# Altium schematic symbol library Connectors.SchLib: 114 symbols
Pins are listed as number, name and electrical type; pins without a type are passive.

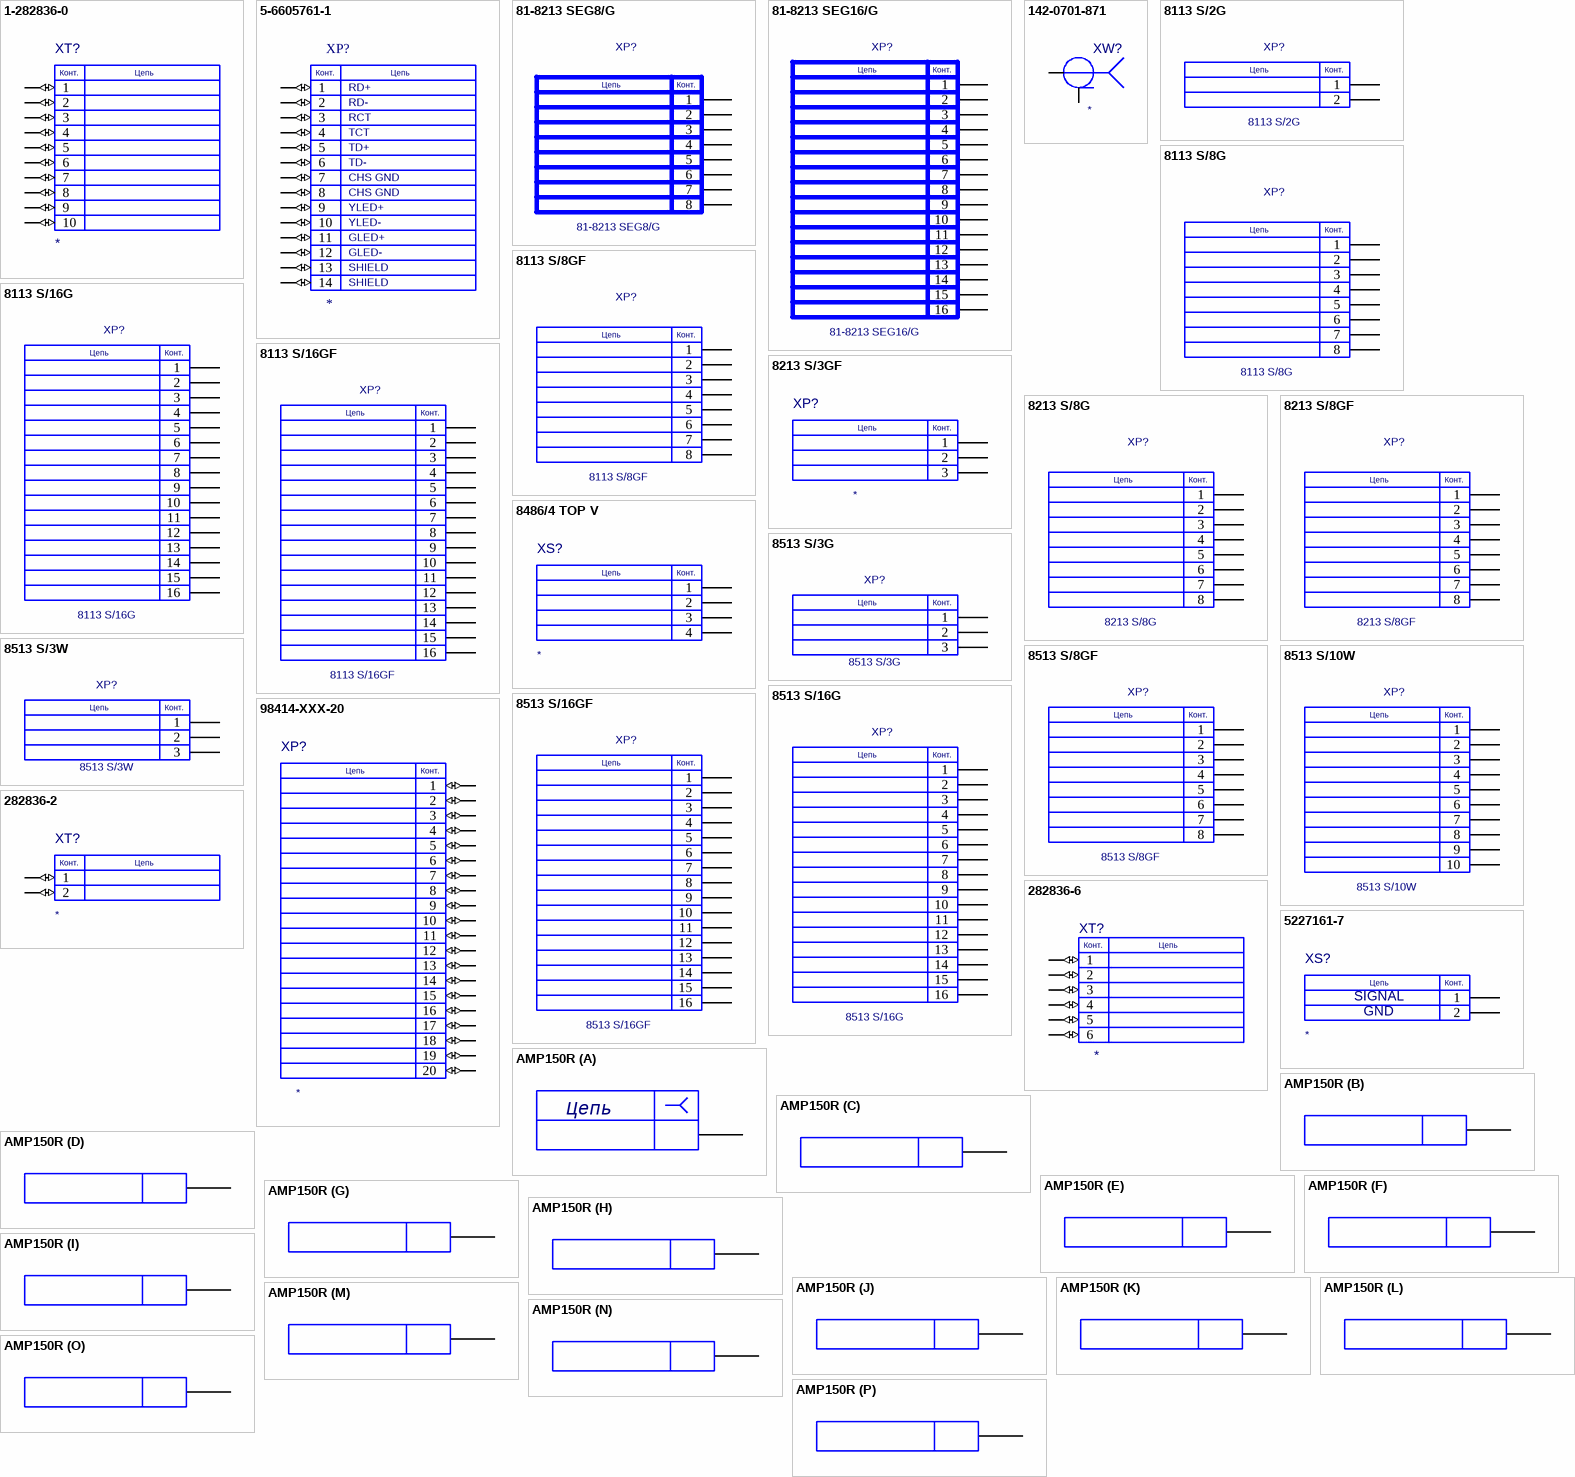
[diagram p0: symbols 1-282836-0 to AMP150R]

## 1-282836-0
designator XT?
footprint 1-282836-0
pins: 1 (io), 2 (io), 3 (io), 4 (io), 5 (io), 6 (io), 7 (io), 8 (io), 9 (io), 10 (io)
text: Конт.; Цепь

## 5-6605761-1
designator XP?
footprint RJ-45_726ET_CIRCUIT
pins: 1 (io), 2 (io), 3 (io), 4 (io), 5 (io), 6 (io), 7 (io), 8 (io), 9 (io), 10 (io), 11 (io), 12 (io), 13 (io), 14 (io)
text: Конт.; Цепь; RD+; RD-; RCT; TCT; TD+; TD-; CHS GND; YLED+; YLED-; GLED+; GLED-; SHIELD

## 81-8213 SEG8/G
designator XP?
Value: *
footprint 81-8213 SEG8/G
pins: 1, 2, 3, 4, 5, 6, 7, 8
text: Цепь; Конт.

## 81-8213 SEG16/G
designator XP?
Value: *
footprint 81-8213 SEG16/G
pins: 1, 2, 3, 4, 5, 6, 7, 8, 9, 10, 11, 12, 13, 14, 15, 16
text: Цепь; Конт.

## 142-0701-871
designator XW?
footprint 142-0701-871
pins: 1, 2

## 8113 S/2G
designator XP?
Value: *
footprint 8113S\2G
pins: 1, 2
text: Цепь; Конт.

## 8113 S/8G
designator XP?
Value: *
footprint 8113 S/8G
pins: 1, 2, 3, 4, 5, 6, 7, 8
text: Цепь; Конт.

## 8113 S/8GF
designator XP?
Value: *
footprint 8113 S/8GF
pins: 1, 2, 3, 4, 5, 6, 7, 8
text: Цепь; Конт.

## 8113 S/16G
designator XP?
Value: *
footprint 8113 S/16G
pins: 1, 2, 3, 4, 5, 6, 7, 8, 9, 10, 11, 12, 13, 14, 15, 16
text: Цепь; Конт.

## 8113 S/16GF
designator XP?
Value: *
footprint 8113 S/16GF
pins: 1, 2, 3, 4, 5, 6, 7, 8, 9, 10, 11, 12, 13, 14, 15, 16
text: Цепь; Конт.

## 8213 S/3GF
designator XP?
footprint 8213 S/3GF
pins: 1, 2, 3
text: Цепь; Конт.

## 8213 S/8G
designator XP?
Value: *
footprint 8213 S/8G
pins: 1, 2, 3, 4, 5, 6, 7, 8
text: Цепь; Конт.

## 8213 S/8GF
designator XP?
Value: *
footprint 8213 S/8GF
pins: 1, 2, 3, 4, 5, 6, 7, 8
text: Цепь; Конт.

## 8486/4 TOP V
designator XS?
footprint 8486/4 TOP V (27.703.0453.0)
pins: 1, 2, 3, 4
text: Цепь; Конт.

## 8513 S/3G
designator XP?
Value: *
footprint 8513 S/3G
pins: 1, 2, 3
text: Цепь; Конт.

## 8513 S/3W
designator XP?
Value: *
footprint 8513 S/3W
pins: 1, 2, 3
text: Цепь; Конт.

## 8513 S/8GF
designator XP?
Value: *
footprint 8513 S/8GF
pins: 1, 2, 3, 4, 5, 6, 7, 8
text: Цепь; Конт.

## 8513 S/10W
designator XP?
Value: *
footprint 8513 S/10W
pins: 1, 2, 3, 4, 5, 6, 7, 8, 9, 10
text: Цепь; Конт.

## 8513 S/16G
designator XP?
Value: *
footprint 8513 S/16G
pins: 1, 2, 3, 4, 5, 6, 7, 8, 9, 10, 11, 12, 13, 14, 15, 16
text: Цепь; Конт.

## 8513 S/16GF
designator XP?
Value: *
footprint 8513 S/16GF
pins: 1, 2, 3, 4, 5, 6, 7, 8, 9, 10, 11, 12, 13, 14, 15, 16
text: Цепь; Конт.

## 98414-XXX-20
designator XP?
footprint 98414-XXX-20
pins: 1 (io), 2 (io), 3 (io), 4 (io), 5 (io), 6 (io), 7 (io), 8 (io), 9 (io), 10 (io), 11 (io), 12 (io), 13 (io), 14 (io), 15 (io), 16 (io), 17 (io), 18 (io), 19 (io), 20 (io)
text: Цепь; Конт.

## 282836-2
designator XT?
footprint 282836-2
pins: 1 (io), 2 (io)
text: Конт.; Цепь

## 282836-6
designator XT?
footprint 282836-6
pins: 1 (io), 2 (io), 3 (io), 4 (io), 5 (io), 6 (io)
text: Конт.; Цепь

## 5227161-7
designator XS?
BNC JACK, RIGHT ANGLE, 50 OHM, PCB
footprint BNC 5227161
pins: 1, 2
text: Цепь; Конт.; SIGNAL; GND

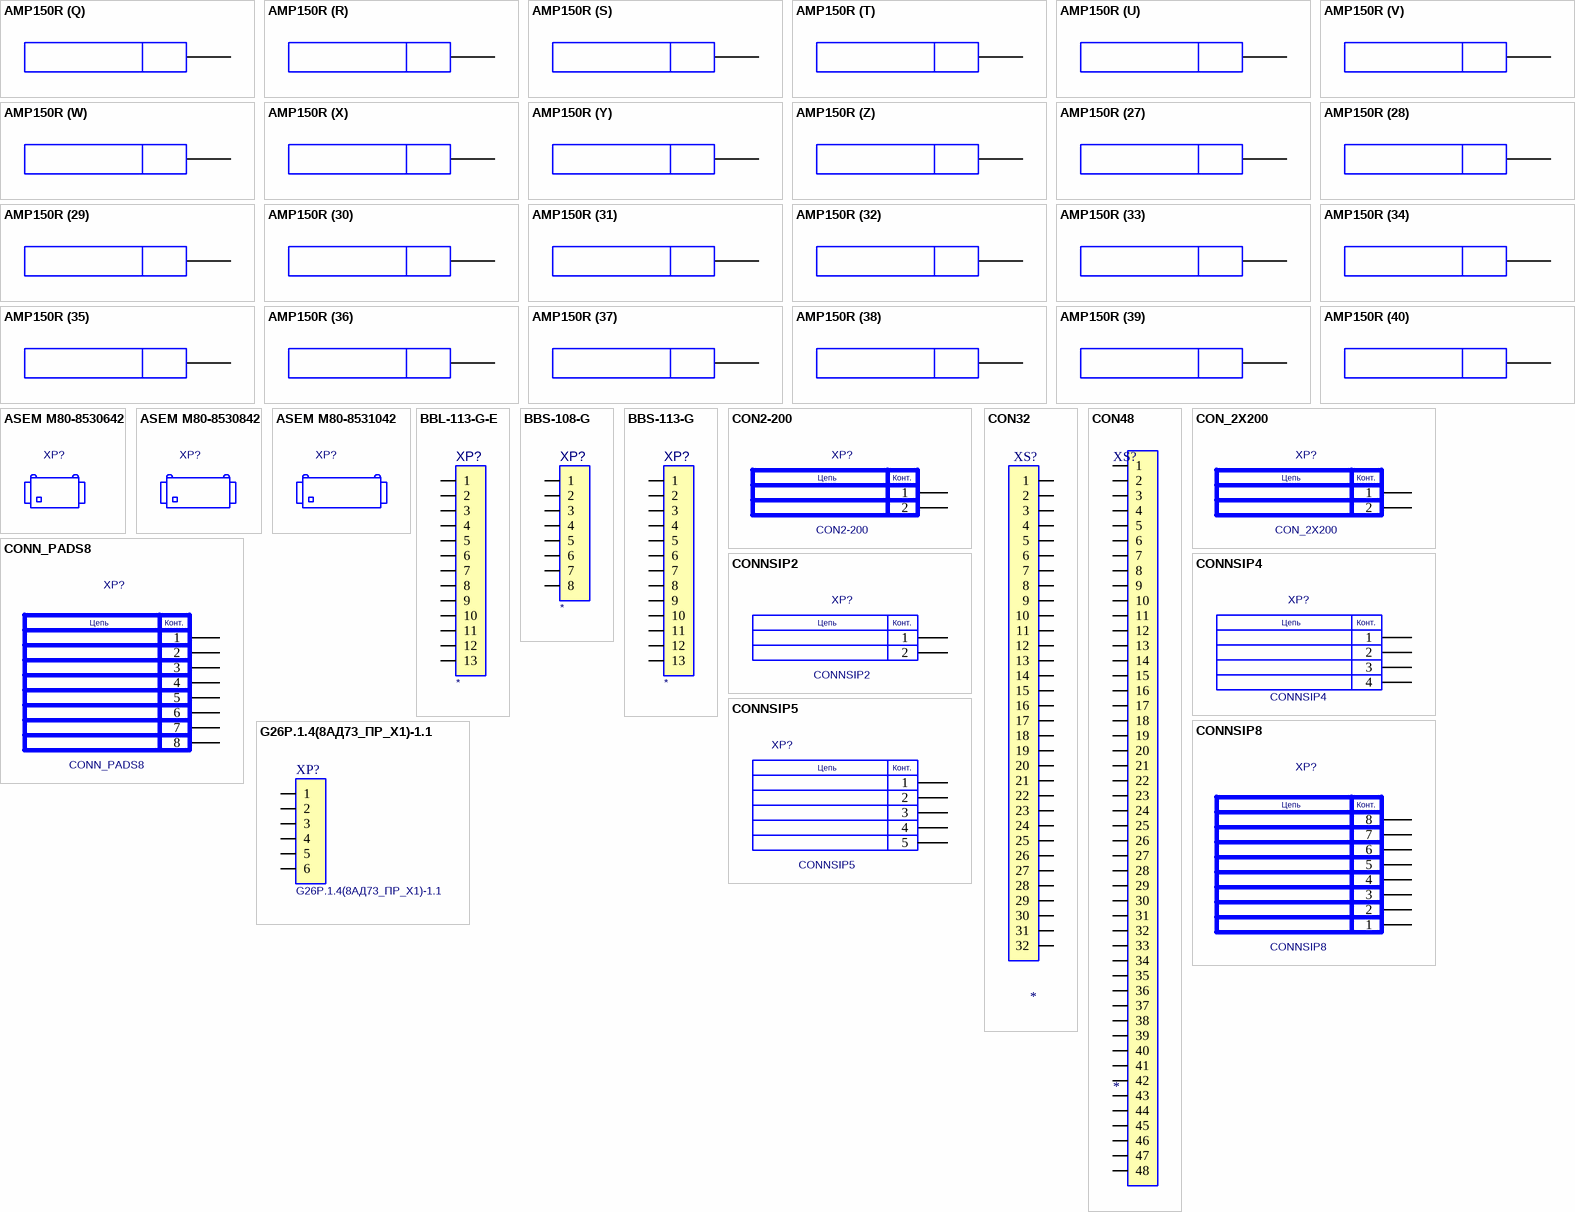
[diagram p1: symbols AMP150R to G26P.1.4(8АД73_ПР_Х1)-1.1]

## AMP150R
designator X?  (value not drawn)
Author: http://sevastianov.simbir.ru; Value: *
footprint AMP150R
pins on every part: 151 hidden, 152 hidden
part A pins: 1 a1
part B pins: 2 a2
part C pins: 3 a3
part D pins: 4 a4
part E pins: 5 a5
part F pins: 6 a6
part G pins: 7 a7
part H pins: 8 a8
part I pins: 9 a9
part J pins: 10 a10
part K pins: 11 a11
part L pins: 12 a12
part M pins: 13 a13
part N pins: 14 a14
part O pins: 15 a15
part P pins: 16 a16
part Q pins: 17 a17
part R pins: 18 a18
part S pins: 19 a19
part T pins: 20 a20
part U pins: 21 a21
part V pins: 22 a22
part W pins: 23 a23
part X pins: 24 a24
part Y pins: 25 a25
part Z pins: 26 a26
part 27 pins: 27 a27
part 28 pins: 28 a28
part 29 pins: 29 a29
part 30 pins: 30 a30
part 31 pins: 31 a31
part 32 pins: 32 a32
part 33 pins: 33 a33
part 34 pins: 34 a34
part 35 pins: 35 a35
part 36 pins: 36 a36
part 37 pins: 37 a37
part 38 pins: 38 a38
part 39 pins: 39 a39
part 40 pins: 40 a40
part 41 pins: 41 a41
part 42 pins: 42 a42
part 43 pins: 43 a43
part 44 pins: 44 a44
part 45 pins: 45 a45
part 46 pins: 46 a46
part 47 pins: 47 a47
part 48 pins: 48 a48
part 49 pins: 49 a49
part 50 pins: 50 a50
part 51 pins: 51 b1
part 52 pins: 52 b2
part 53 pins: 53 b3
part 54 pins: 54 b4
part 55 pins: 55 b5
part 56 pins: 56 b6
part 57 pins: 57 b7
part 58 pins: 58 b8
part 59 pins: 59 b9
part 60 pins: 60 b10
part 61 pins: 61 b11
part 62 pins: 62 b12
part 63 pins: 63 b13
part 64 pins: 64 b14
part 65 pins: 65 b15
part 66 pins: 66 b16
part 67 pins: 67 b17
part 68 pins: 68 b18
part 69 pins: 69 b19
part 70 pins: 70 b20
part 71 pins: 71 b21
part 72 pins: 72 b22
part 73 pins: 73 b23
part 74 pins: 74 b24
part 75 pins: 75 b25
part 76 pins: 76 b26
part 77 pins: 77 b27
part 78 pins: 78 b28
part 79 pins: 79 b29
part 80 pins: 80 b30
part 81 pins: 81 b31
part 82 pins: 82 b32
part 83 pins: 83 b33
part 84 pins: 84 b34
part 85 pins: 85 b35
part 86 pins: 86 b36
part 87 pins: 87 b37
part 88 pins: 88 b38
part 89 pins: 89 b39
part 90 pins: 90 b40
part 91 pins: 91 b41
part 92 pins: 92 b42
part 93 pins: 93 b43
part 94 pins: 94 b44
part 95 pins: 95 b45
part 96 pins: 96 b46
part 97 pins: 97 b47
part 98 pins: 98 b48
part 99 pins: 99 b49
part 100 pins: 100 b50
part 101 pins: 101 c1
part 102 pins: 102 c2
part 103 pins: 103 c3
part 104 pins: 104 c4
part 105 pins: 105 c5
part 106 pins: 106 c6
part 107 pins: 107 c7
part 108 pins: 108 c8
part 109 pins: 109 c9
part 110 pins: 110 c10
part 111 pins: 111 c11
part 112 pins: 112 c12
part 113 pins: 113 c13
part 114 pins: 114 c14
part 115 pins: 115 c15
part 116 pins: 116 c16
part 117 pins: 117 c17
part 118 pins: 118 c18
part 119 pins: 119 c19
part 120 pins: 120 c20
part 121 pins: 121 c21
part 122 pins: 122 c22
part 123 pins: 123 c23
part 124 pins: 124 c24
part 125 pins: 125 c25
part 126 pins: 126 c26
part 127 pins: 127 c27
part 128 pins: 128 c28
part 129 pins: 129 c29
part 130 pins: 130 c30
part 131 pins: 131 c31
part 132 pins: 132 c32
part 133 pins: 133 c33
part 134 pins: 134 c34
part 135 pins: 135 c35
part 136 pins: 136 c36
part 137 pins: 137 c37
part 138 pins: 138 c38
part 139 pins: 139 c39
part 140 pins: 140 c40
part 141 pins: 141 c41
part 142 pins: 142 c42
part 143 pins: 143 c43
part 144 pins: 144 c44
part 145 pins: 145 c45
part 146 pins: 146 c46
part 147 pins: 147 c47
part 148 pins: 148 c48
part 149 pins: 149 c49
part 150 pins: 150 c50
part A text: Цепь

## ASEM M80-8530642
designator XP?, comment M80-8530642 вилка на плату  (value not drawn)
M80-8530642; Value: *

## ASEM M80-8530842
designator XP?, comment M80-8530842 вилка на плату  (value not drawn)
M80-8530842; Value: *

## ASEM M80-8531042
designator XP?, comment M80-8531042 вилка на плату  (value not drawn)
M80-8531042; Value: *

## BBL-113-G-E
designator XP?
Part Field 1: *; Part Field 2: *
footprint BBL-113-G-E
pins: 1, 2, 3, 4, 5, 6, 7, 8, 9, 10, 11, 12, 13

## BBS-108-G
designator XP?
Part Field 1: *; Part Field 2: *
footprint BBS-108-G-A
pins: 1, 2, 3, 4, 5, 6, 7, 8

## BBS-113-G
designator XP?
Part Field 1: *; Part Field 2: *
footprint BBS-113-G-B
footprint BBS-113-G-A
footprint BBS-113-G-C
pins: 1, 2, 3, 4, 5, 6, 7, 8, 9, 10, 11, 12, 13

## CON2-200
designator XP?
Value: *
footprint CON2-200
pins: 1, 2
text: Цепь; Конт.

## CON32
designator XS?
Part Field 1: *; Part Field 2: *
pins: 1, 2, 3, 4, 5, 6, 7, 8, 9, 10, 11, 12, 13, 14, 15, 16, 17, 18, 19, 20, 21, 22, 23, 24, 25, 26, 27, 28, 29, 30, 31, 32

## CON48
designator XS?
Part Field 1: *; Part Field 2: *
pins: 1, 2, 3, 4, 5, 6, 7, 8, 9, 10, 11, 12, 13, 14, 15, 16, 17, 18, 19, 20, 21, 22, 23, 24, 25, 26, 27, 28, 29, 30, 31, 32, 33, 34, 35, 36, 37, 38, 39, 40, 41, 42, 43, 44, 45, 46, 47, 48

## CON_2X200
designator XP?
Value: *
footprint CON_2X200
pins: 1, 2
text: Цепь; Конт.

## CONN_PADS8
designator XP?
Value: *
footprint CON_PADS8
pins: 1, 2, 3, 4, 5, 6, 7, 8
text: Цепь; Конт.

## CONNSIP2
designator XP?
Value: *
footprint SIP2
pins: 1, 2
text: Цепь; Конт.

## CONNSIP4
designator XP?
Value: *
footprint SIP4
pins: 1, 2, 3, 4
text: Цепь; Конт.

## CONNSIP5
designator XP?
Value: *
footprint SIP5
pins: 1, 2, 3, 4, 5
text: Цепь; Конт.

## CONNSIP8
designator XP?
Value: *
footprint SIP8
pins: 1, 2, 3, 4, 5, 6, 7, 8
text: Цепь; Конт.

## G26P.1.4(8АД73_ПР_Х1)-1.1
designator XP?
Part Field 1: *; Part Field 2: *
footprint G26P.1.4(8АД73_ПР_Х1)-1.1
pins: 1, 2, 3, 4, 5, 6

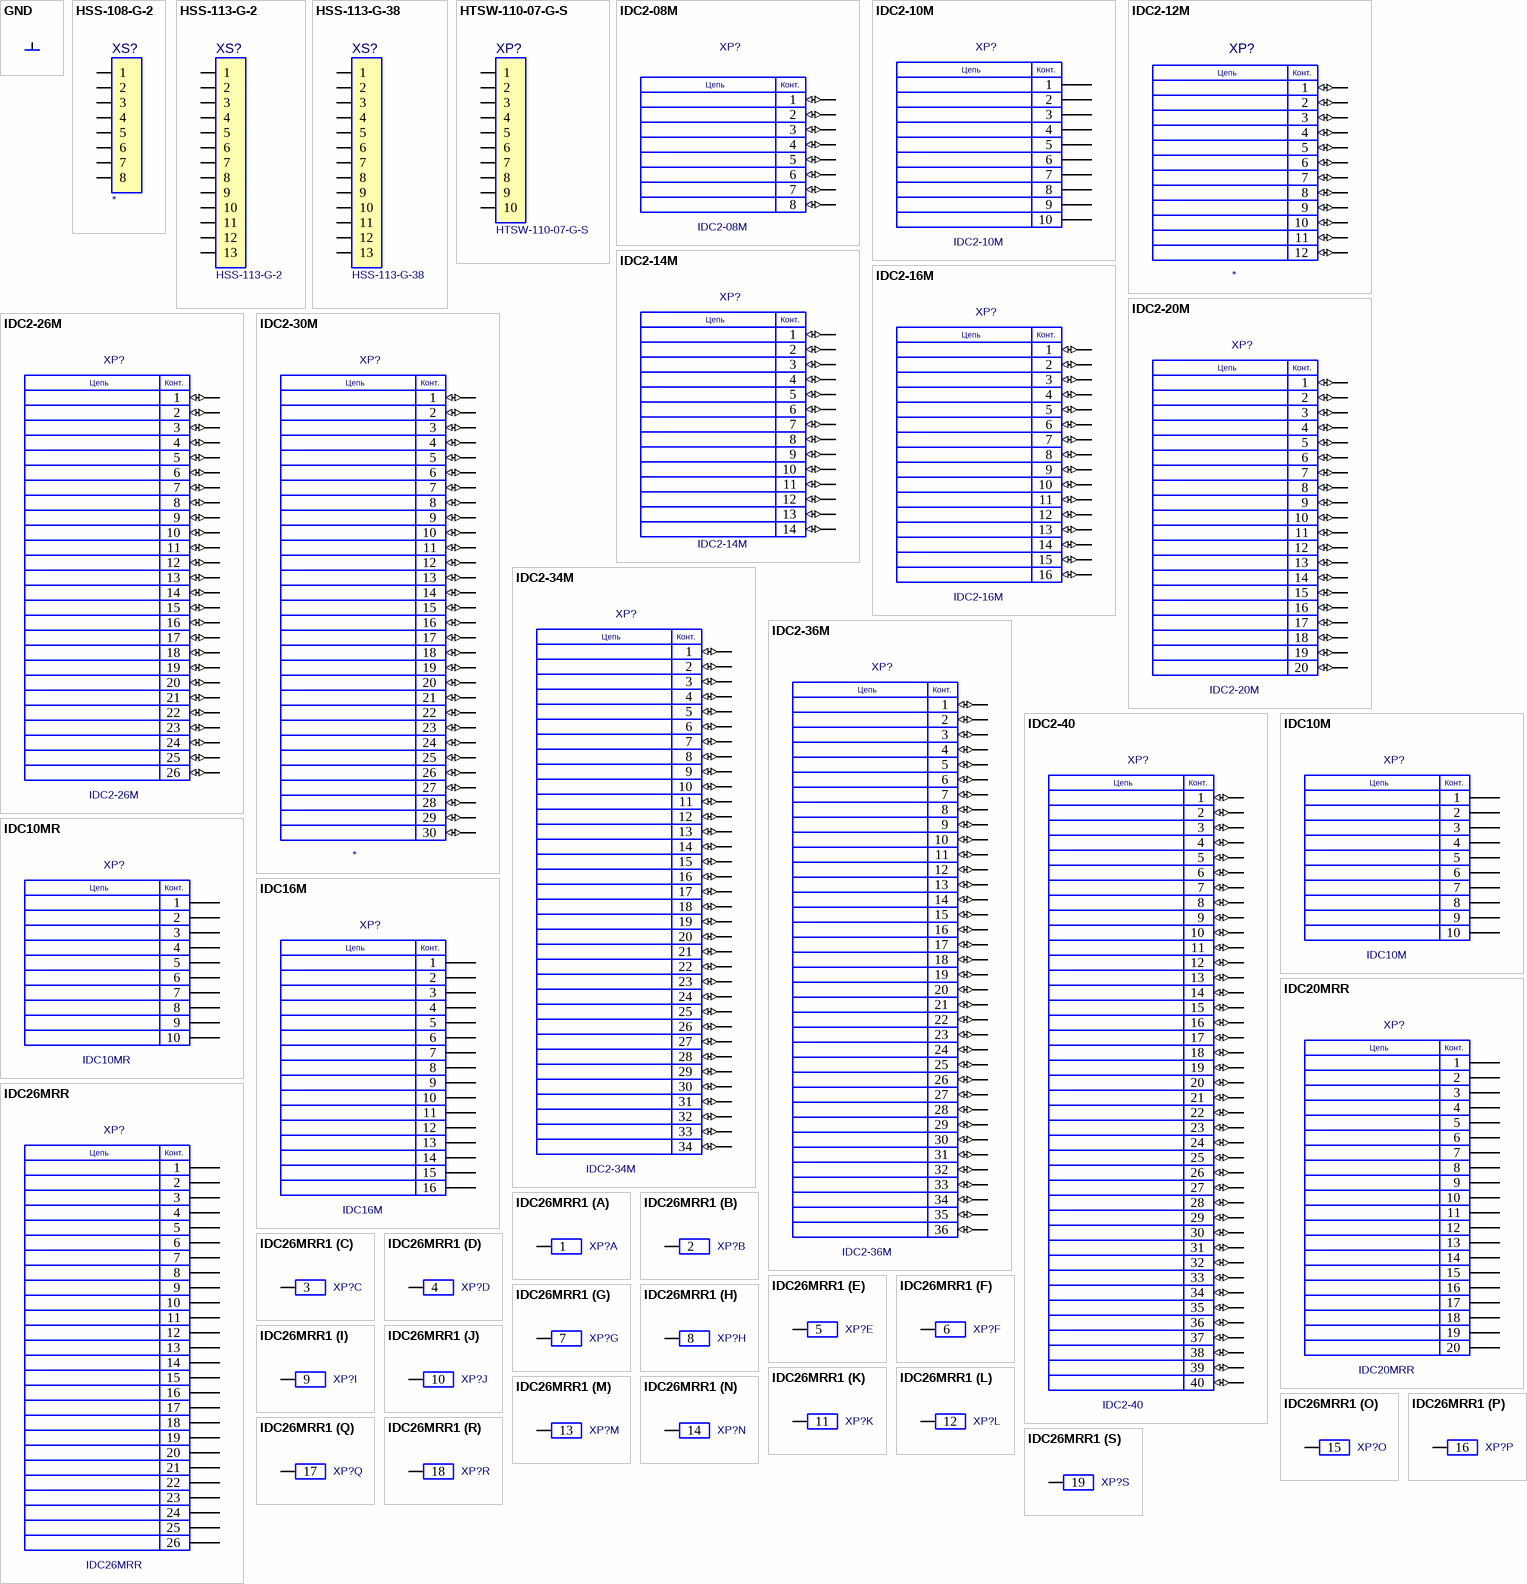
[diagram p2: symbols GND to IDC26MRR1]

## GND
designator PWR?  (value not drawn)
GND; Value: *
pins: 1 GND (power)

## HSS-108-G-2
designator XS?
HSS-108-G-2; Part Field 1: *; Part Field 2: *
footprint HSS-108-G-2 h4.4
pins: 1, 2, 3, 4, 5, 6, 7, 8

## HSS-113-G-2
designator XS?
Part Field 1: *; Part Field 2: *
footprint HSS-113-G-2 h4.4
footprint HSS-113-G-2 h2.54
footprint HSS-113-G-2 h2.54 V2
pins: 1, 2, 3, 4, 5, 6, 7, 8, 9, 10, 11, 12, 13

## HSS-113-G-38
designator XS?
Part Field 1: *; Part Field 2: *
footprint HSS-113-G-38 H2.54
pins: 1, 2, 3, 4, 5, 6, 7, 8, 9, 10, 11, 12, 13

## HTSW-110-07-G-S
designator XP?
Part Field 1: *; Part Field 2: *
footprint HTSW-110-07-G-S
pins: 1, 2, 3, 4, 5, 6, 7, 8, 9, 10

## IDC2-08M
designator XP?
Value: *
footprint IDC2-08M
pins: 1 (io), 2 (io), 3 (io), 4 (io), 5 (io), 6 (io), 7 (io), 8 (io)
text: Цепь; Конт.

## IDC2-10M
designator XP?
Value: *
footprint IDC2-10M
pins: 1, 2, 3, 4, 5, 6, 7, 8, 9, 10
text: Цепь; Конт.

## IDC2-12M
designator XP?
IDC2-14M; Value: *
footprint IDC2-12M
pins: 1 (io), 2 (io), 3 (io), 4 (io), 5 (io), 6 (io), 7 (io), 8 (io), 9 (io), 10 (io), 11 (io), 12 (io)
text: Цепь; Конт.

## IDC2-14M
designator XP?
Value: *
footprint IDC2-14M
pins: 1 (io), 2 (io), 3 (io), 4 (io), 5 (io), 6 (io), 7 (io), 8 (io), 9 (io), 10 (io), 11 (io), 12 (io), 13 (io), 14 (io)
text: Цепь; Конт.

## IDC2-16M
designator XP?
Value: *
footprint IDC2-16M
pins: 1 (io), 2 (io), 3 (io), 4 (io), 5 (io), 6 (io), 7 (io), 8 (io), 9 (io), 10 (io), 11 (io), 12 (io), 13 (io), 14 (io), 15 (io), 16 (io)
text: Цепь; Конт.

## IDC2-20M
designator XP?
Value: *
footprint IDC2-20M
pins: 1 (io), 2 (io), 3 (io), 4 (io), 5 (io), 6 (io), 7 (io), 8 (io), 9 (io), 10 (io), 11 (io), 12 (io), 13 (io), 14 (io), 15 (io), 16 (io), 17 (io), 18 (io), 19 (io), 20 (io)
text: Цепь; Конт.

## IDC2-26M
designator XP?
Value: *
footprint IDC2-26M
pins: 1 (io), 2 (io), 3 (io), 4 (io), 5 (io), 6 (io), 7 (io), 8 (io), 9 (io), 10 (io), 11 (io), 12 (io), 13 (io), 14 (io), 15 (io), 16 (io), 17 (io), 18 (io), 19 (io), 20 (io), 21 (io), 22 (io), 23 (io), 24 (io), 25 (io), 26 (io)
text: Цепь; Конт.

## IDC2-30M
designator XP?
IDC2-34M; Value: *
footprint IDC2-30M
pins: 1 (io), 2 (io), 3 (io), 4 (io), 5 (io), 6 (io), 7 (io), 8 (io), 9 (io), 10 (io), 11 (io), 12 (io), 13 (io), 14 (io), 15 (io), 16 (io), 17 (io), 18 (io), 19 (io), 20 (io), 21 (io), 22 (io), 23 (io), 24 (io), 25 (io), 26 (io), 27 (io), 28 (io), 29 (io), 30 (io)
text: Цепь; Конт.

## IDC2-34M
designator XP?
Value: *
footprint IDC2-34M
pins: 1 (io), 2 (io), 3 (io), 4 (io), 5 (io), 6 (io), 7 (io), 8 (io), 9 (io), 10 (io), 11 (io), 12 (io), 13 (io), 14 (io), 15 (io), 16 (io), 17 (io), 18 (io), 19 (io), 20 (io), 21 (io), 22 (io), 23 (io), 24 (io), 25 (io), 26 (io), 27 (io), 28 (io), 29 (io), 30 (io), 31 (io), 32 (io), 33 (io), 34 (io)
text: Цепь; Конт.

## IDC2-36M
designator XP?
Value: *
footprint IDC2-36M
pins: 1 (io), 2 (io), 3 (io), 4 (io), 5 (io), 6 (io), 7 (io), 8 (io), 9 (io), 10 (io), 11 (io), 12 (io), 13 (io), 14 (io), 15 (io), 16 (io), 17 (io), 18 (io), 19 (io), 20 (io), 21 (io), 22 (io), 23 (io), 24 (io), 25 (io), 26 (io), 27 (io), 28 (io), 29 (io), 30 (io), 31 (io), 32 (io), 33 (io), 34 (io), 35 (io), 36 (io)
text: Цепь; Конт.

## IDC2-40
designator XP?
Value: *
footprint IDC2-40
pins: 1 (io), 2 (io), 3 (io), 4 (io), 5 (io), 6 (io), 7 (io), 8 (io), 9 (io), 10 (io), 11 (io), 12 (io), 13 (io), 14 (io), 15 (io), 16 (io), 17 (io), 18 (io), 19 (io), 20 (io), 21 (io), 22 (io), 23 (io), 24 (io), 25 (io), 26 (io), 27 (io), 28 (io), 29 (io), 30 (io), 31 (io), 32 (io), 33 (io), 34 (io), 35 (io), 36 (io), 37 (io), 38 (io), 39 (io), 40 (io)
text: Цепь; Конт.

## IDC10M
designator XP?
Value: *
footprint IDC10M
pins: 1, 2, 3, 4, 5, 6, 7, 8, 9, 10
text: Цепь; Конт.

## IDC10MR
designator XP?
Value: *
footprint IDC10MR
pins: 1, 2, 3, 4, 5, 6, 7, 8, 9, 10
text: Цепь; Конт.

## IDC16M
designator XP?
Value: *
footprint IDC16M
pins: 1, 2, 3, 4, 5, 6, 7, 8, 9, 10, 11, 12, 13, 14, 15, 16
text: Цепь; Конт.

## IDC20MRR
designator XP?
Value: *
footprint IDC20M
pins: 1, 2, 3, 4, 5, 6, 7, 8, 9, 10, 11, 12, 13, 14, 15, 16, 17, 18, 19, 20
text: Цепь; Конт.

## IDC26MRR
designator XP?
Value: *
footprint IDC_26MS
pins: 1, 2, 3, 4, 5, 6, 7, 8, 9, 10, 11, 12, 13, 14, 15, 16, 17, 18, 19, 20, 21, 22, 23, 24, 25, 26
text: Цепь; Конт.

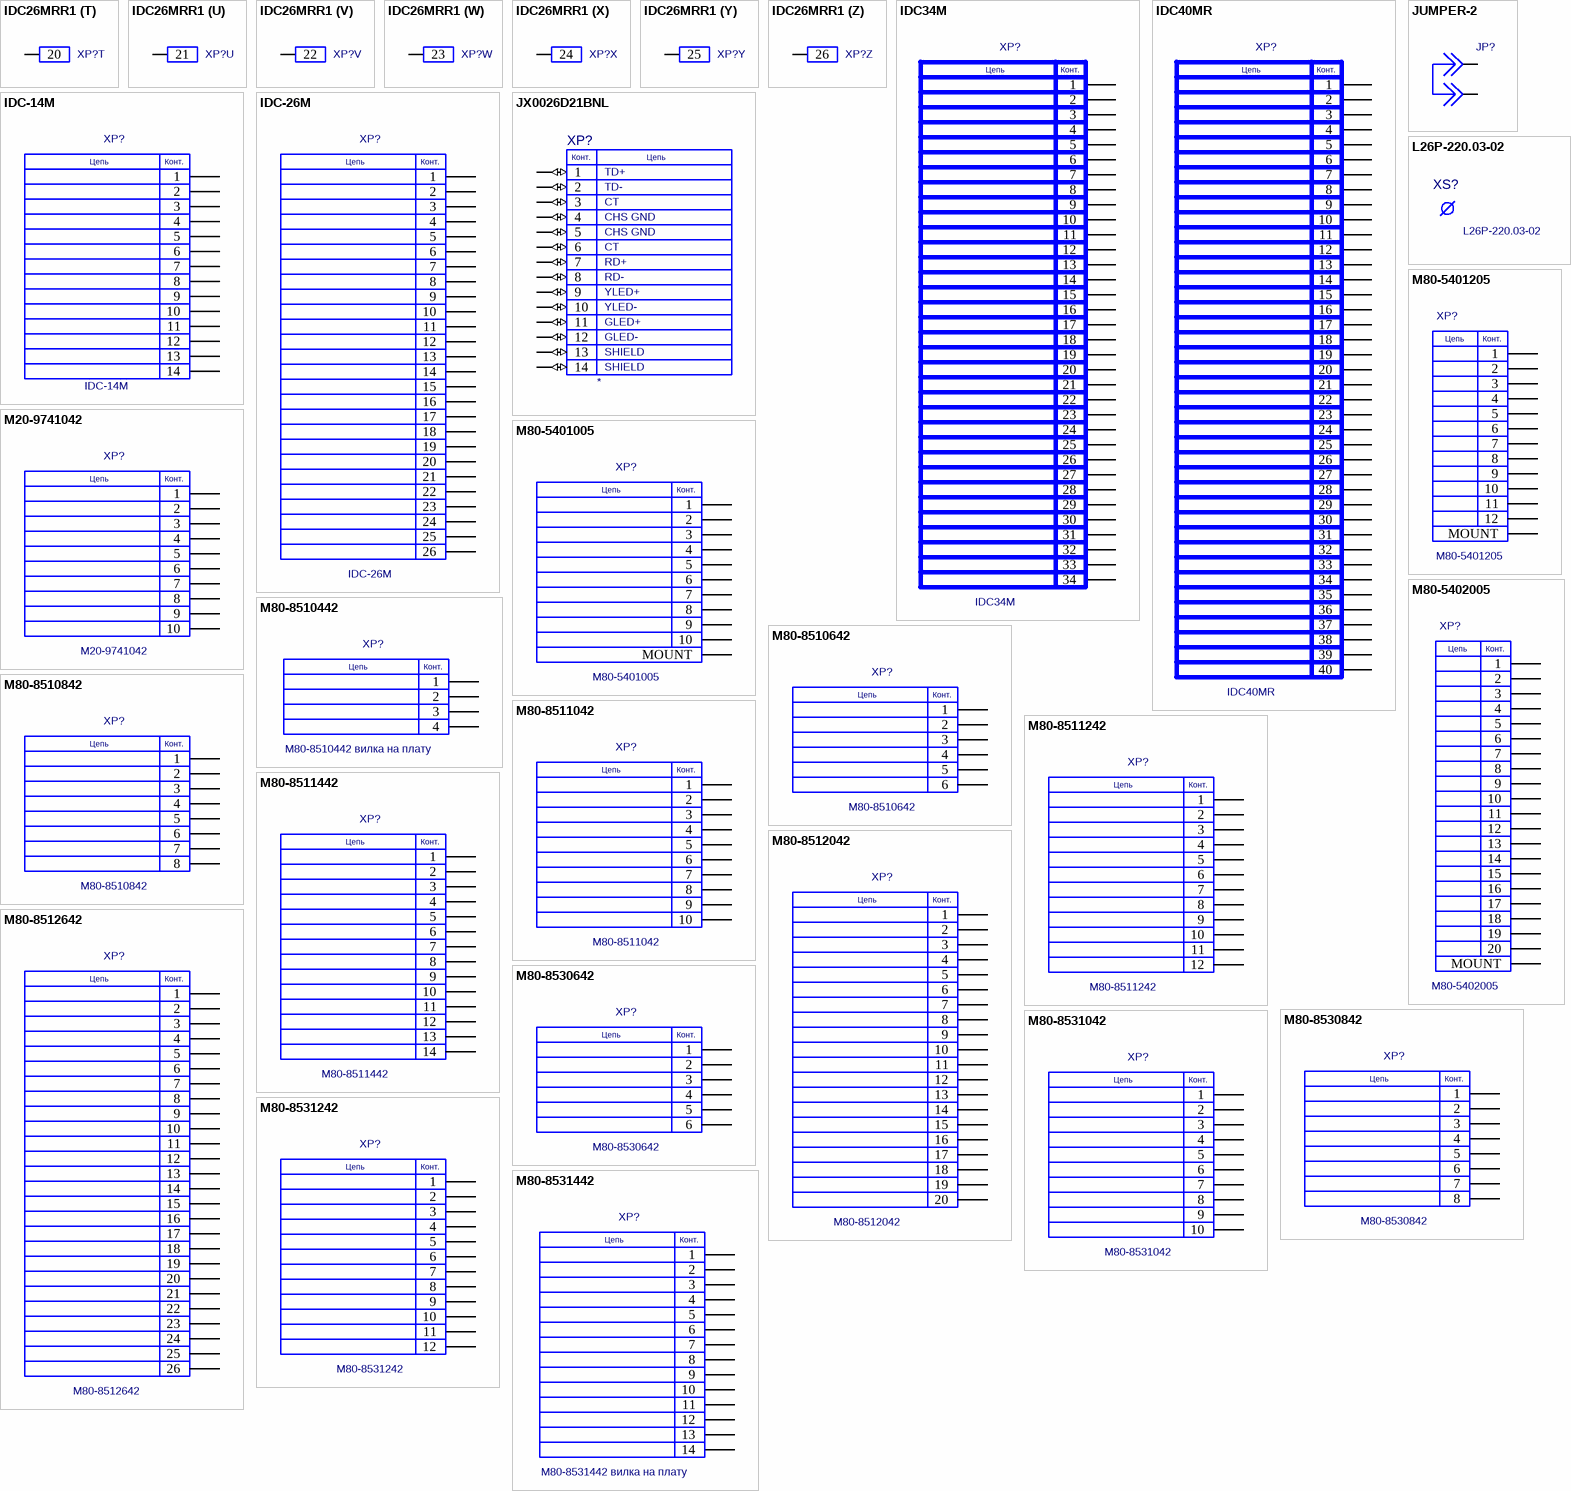
[diagram p3: symbols IDC26MRR1 to M80-8531442]

## IDC26MRR1
designator XP?  (value not drawn)
IDC26MRR1; Value: *
footprint IDC_26MS
part A pins: 1
part B pins: 2
part C pins: 3
part D pins: 4
part E pins: 5
part F pins: 6
part G pins: 7
part H pins: 8
part I pins: 9
part J pins: 10
part K pins: 11
part L pins: 12
part M pins: 13
part N pins: 14
part O pins: 15
part P pins: 16
part Q pins: 17
part R pins: 18
part S pins: 19
part T pins: 20
part U pins: 21
part V pins: 22
part W pins: 23
part X pins: 24
part Y pins: 25
part Z pins: 26

## IDC34M
designator XP?
Value: *
footprint IDC34M
pins: 1, 2, 3, 4, 5, 6, 7, 8, 9, 10, 11, 12, 13, 14, 15, 16, 17, 18, 19, 20, 21, 22, 23, 24, 25, 26, 27, 28, 29, 30, 31, 32, 33, 34
text: Цепь; Конт.

## IDC40MR
designator XP?
Value: *
footprint IDC40M
pins: 1, 2, 3, 4, 5, 6, 7, 8, 9, 10, 11, 12, 13, 14, 15, 16, 17, 18, 19, 20, 21, 22, 23, 24, 25, 26, 27, 28, 29, 30, 31, 32, 33, 34, 35, 36, 37, 38, 39, 40
text: Цепь; Конт.

## IDC-14M
designator XP?
Value: *
footprint IDC14M
pins: 1, 2, 3, 4, 5, 6, 7, 8, 9, 10, 11, 12, 13, 14
text: Цепь; Конт.

## IDC-26M
designator XP?
Value: *
footprint IDC26M
pins: 1, 2, 3, 4, 5, 6, 7, 8, 9, 10, 11, 12, 13, 14, 15, 16, 17, 18, 19, 20, 21, 22, 23, 24, 25, 26
text: Цепь; Конт.

## JUMPER-2
designator JP?  (value not drawn)
Value: *
footprint SIP2
pins: 1, 2

## JX0026D21BNL
designator XP?
footprint RJ-45_JX0_BNL
pins: 1 (io), 2 (io), 3 (io), 4 (io), 5 (io), 6 (io), 7 (io), 8 (io), 9 (io), 10 (io), 11 (io), 12 (io), 13 (io), 14 (io)
text: Конт.; Цепь; TD+; TD-; CT; CHS GND; RD+; RD-; YLED+; YLED-; GLED+; GLED-; SHIELD

## L26P-220.03-02
designator XS?
footprint L26P-220.03-02
footprint L26P-220.03-02 V2
pins: 1

## M20-9741042
designator XP?
Value: *
footprint M20-9741042
pins: 1, 2, 3, 4, 5, 6, 7, 8, 9, 10
text: Цепь; Конт.

## M80-5401005
designator XP?
M80-8531242; Value: *
footprint M80-5401005
pins: 0 MOUNT, 1, 2, 3, 4, 5, 6, 7, 8, 9, 10
text: Цепь; Конт.

## M80-5401205
designator XP?
Value: *
footprint M80-5401205
pins: 0 MOUNT, 1, 2, 3, 4, 5, 6, 7, 8, 9, 10, 11, 12
text: Цепь; Конт.

## M80-5402005
designator XP?
M80-5401205; Value: *
footprint M80-5402005
pins: 0 MOUNT, 1, 2, 3, 4, 5, 6, 7, 8, 9, 10, 11, 12, 13, 14, 15, 16, 17, 18, 19, 20
text: Цепь; Конт.

## M80-8510442
designator XP?, comment M80-8510442 вилка на плату
M80-8510642; Value: *
footprint M80-85104
pins: 1, 2, 3, 4
text: Цепь; Конт.

## M80-8510642
designator XP?
Value: *
footprint M80-85106
pins: 1, 2, 3, 4, 5, 6
text: Цепь; Конт.

## M80-8510842
designator XP?
Value: *
footprint M80-85108
pins: 1, 2, 3, 4, 5, 6, 7, 8
text: Цепь; Конт.

## M80-8511042
designator XP?
Value: *
footprint M80-85110
pins: 1, 2, 3, 4, 5, 6, 7, 8, 9, 10
text: Цепь; Конт.

## M80-8511242
designator XP?
Value: *
footprint M80-85112
pins: 1, 2, 3, 4, 5, 6, 7, 8, 9, 10, 11, 12
text: Цепь; Конт.

## M80-8511442
designator XP?
Value: *
footprint M80-85114
pins: 1, 2, 3, 4, 5, 6, 7, 8, 9, 10, 11, 12, 13, 14
text: Цепь; Конт.

## M80-8512042
designator XP?
Value: *
footprint M80-85120
pins: 1, 2, 3, 4, 5, 6, 7, 8, 9, 10, 11, 12, 13, 14, 15, 16, 17, 18, 19, 20
text: Цепь; Конт.

## M80-8512642
designator XP?
M80-8532042; Value: *
footprint M80-85126
pins: 1, 2, 3, 4, 5, 6, 7, 8, 9, 10, 11, 12, 13, 14, 15, 16, 17, 18, 19, 20, 21, 22, 23, 24, 25, 26
text: Цепь; Конт.

## M80-8530642
designator XP?
Value: *
footprint M80-85306
pins: 1, 2, 3, 4, 5, 6
text: Цепь; Конт.

## M80-8530842
designator XP?
Value: *
footprint M80-85308
pins: 1, 2, 3, 4, 5, 6, 7, 8
text: Цепь; Конт.

## M80-8531042
designator XP?
Value: *
footprint M80-85310
pins: 1, 2, 3, 4, 5, 6, 7, 8, 9, 10
text: Цепь; Конт.

## M80-8531242
designator XP?
Value: *
footprint M80-85312
pins: 1, 2, 3, 4, 5, 6, 7, 8, 9, 10, 11, 12
text: Цепь; Конт.

## M80-8531442
designator XP?, comment M80-8531442 вилка на плату
M80-8531442; Value: *
footprint M80-85314
pins: 1, 2, 3, 4, 5, 6, 7, 8, 9, 10, 11, 12, 13, 14
text: Цепь; Конт.

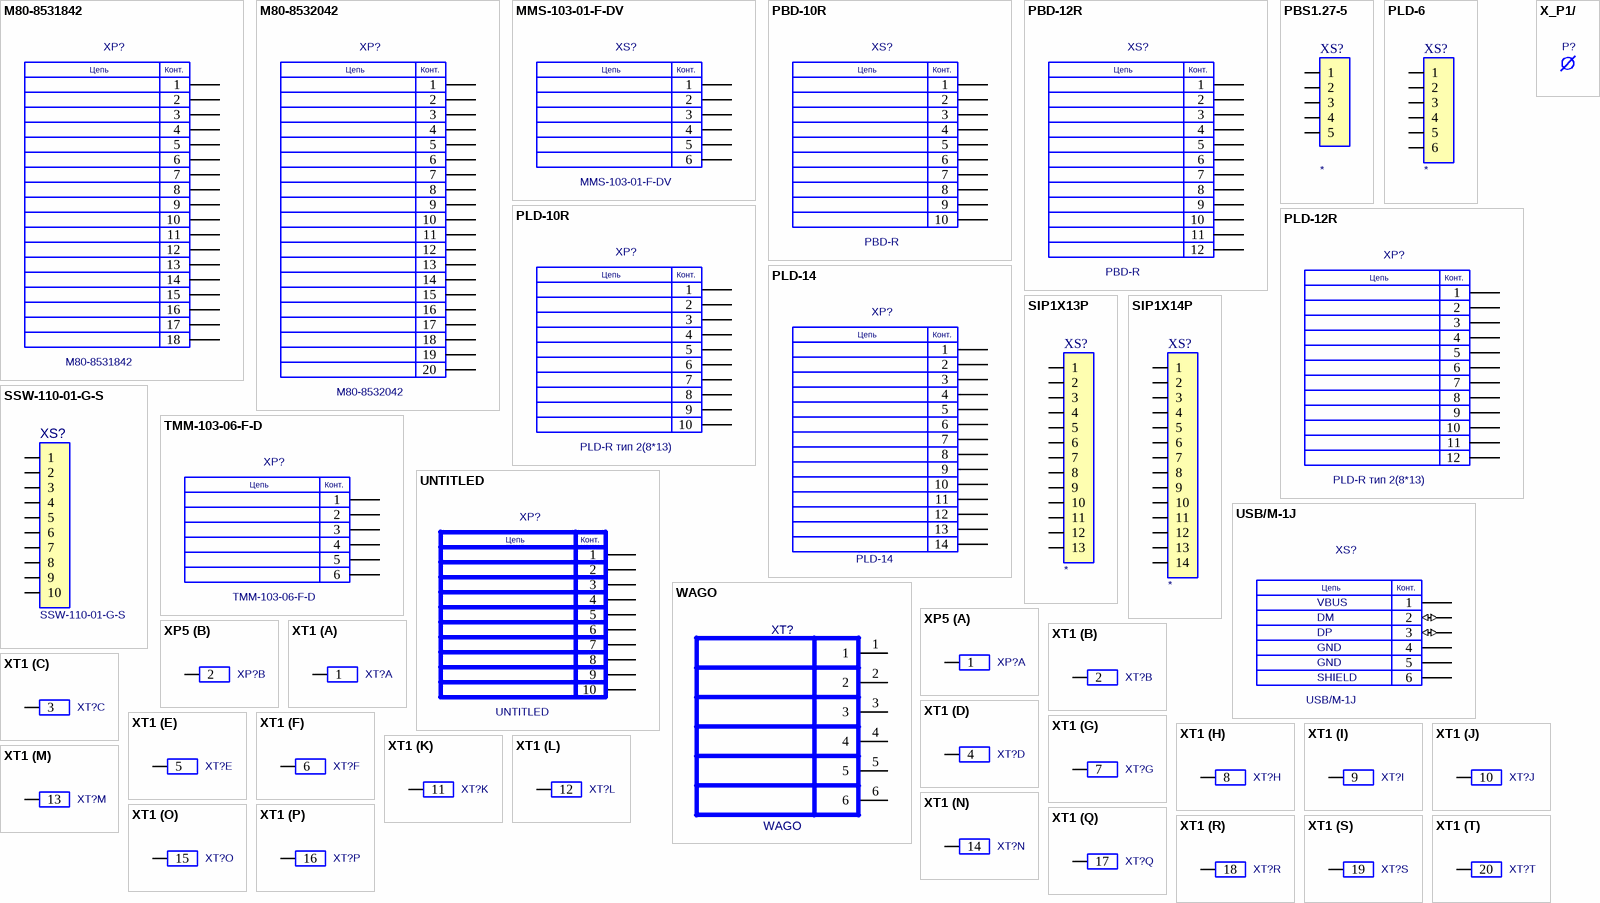
[diagram p4: symbols M80-8531842 to XT1]

## M80-8531842
designator XP?
Value: *
footprint M80-85318
pins: 1, 2, 3, 4, 5, 6, 7, 8, 9, 10, 11, 12, 13, 14, 15, 16, 17, 18
text: Цепь; Конт.

## M80-8532042
designator XP?
Value: *
footprint M80-85320
pins: 1, 2, 3, 4, 5, 6, 7, 8, 9, 10, 11, 12, 13, 14, 15, 16, 17, 18, 19, 20
text: Цепь; Конт.

## MMS-103-01-F-DV
designator XS?
Value: *
footprint MMS-103-01-F-DV
pins: 1, 2, 3, 4, 5, 6
text: Цепь; Конт.

## PBD-10R
designator XS?, comment PBD-R
Value: *; Part Field 2: 10 конт.
footprint PBD-10R
pins: 1, 2, 3, 4, 5, 6, 7, 8, 9, 10
text: Цепь; Конт.

## PBD-12R
designator XS?, comment PBD-R
Value: *; Part Field 2: 12 конт.
footprint PBD-12R
pins: 1, 2, 3, 4, 5, 6, 7, 8, 9, 10, 11, 12
text: Цепь; Конт.

## PBS1.27-5
designator XS?
Part Field 1: *; Part Field 2: *
footprint PBS1.27-5
pins: 1, 2, 3, 4, 5

## PLD-6
designator XS?
Part Field 1: *; Part Field 2: *
footprint PLD-6
pins: 1, 2, 3, 4, 5, 6

## PLD-10R
designator XP?, comment PLD-R тип 2(8*13)
Value: *; Part Field 2: 10 конт.
footprint M20-9741042
pins: 1, 2, 3, 4, 5, 6, 7, 8, 9, 10
text: Цепь; Конт.

## PLD-12R
designator XP?, comment PLD-R тип 2(8*13)
Value: *; Part Field 2: 12 конт.
footprint M20-9740642
pins: 1, 2, 3, 4, 5, 6, 7, 8, 9, 10, 11, 12
text: Цепь; Конт.

## PLD-14
designator XP?
Value: *
footprint PLD-14
pins: 1, 2, 3, 4, 5, 6, 7, 8, 9, 10, 11, 12, 13, 14
text: Цепь; Конт.

## SIP1X13P
designator XS?
Part Field 1: *; Part Field 2: *
footprint SIP1X13P
pins: 1, 2, 3, 4, 5, 6, 7, 8, 9, 10, 11, 12, 13

## SIP1X14P
designator XS?
Part Field 1: *; Part Field 2: *
footprint SIP1X14P
pins: 1, 2, 3, 4, 5, 6, 7, 8, 9, 10, 11, 12, 13, 14

## SSW-110-01-G-S
designator XS?
Part Field 1: *; Part Field 2: *
footprint SSW-110-01-G-S
pins: 1, 2, 3, 4, 5, 6, 7, 8, 9, 10

## TMM-103-06-F-D
designator XP?
Value: *
footprint TMM-103-06-F-D
pins: 1, 2, 3, 4, 5, 6
text: Цепь; Конт.

## UNTITLED
designator XP?
Value: *
footprint IDC10M_MR
footprint IDC10M_Primary
pins: 1, 2, 3, 4, 5, 6, 7, 8, 9, 10
text: Цепь; Конт.

## USB/M-1J
designator XS?
розетка на плату miniUSB 5BFR SMD; Value: *
footprint USB_B_MINI
pins: 1 (power), 2 (io), 3 (io), 4 (power), 5 (power), 6 (power)
text: Цепь; Конт.; VBUS; DM; DP; GND; SHIELD

## WAGO
designator XT?
Value: *
footprint 737-652
pins: 1, 2, 3, 4, 5, 6

## X_P1/
designator P?  (value not drawn)
Card-Edge Connector; Value: *
footprint PIN
footprint PIN_R1.4_0.9
pins: 1 1A

## XP5
designator XP?  (value not drawn)
XP5; Value: *
footprint 8113S\2G
part A pins: 1 (power)
part B pins: 2 (power)

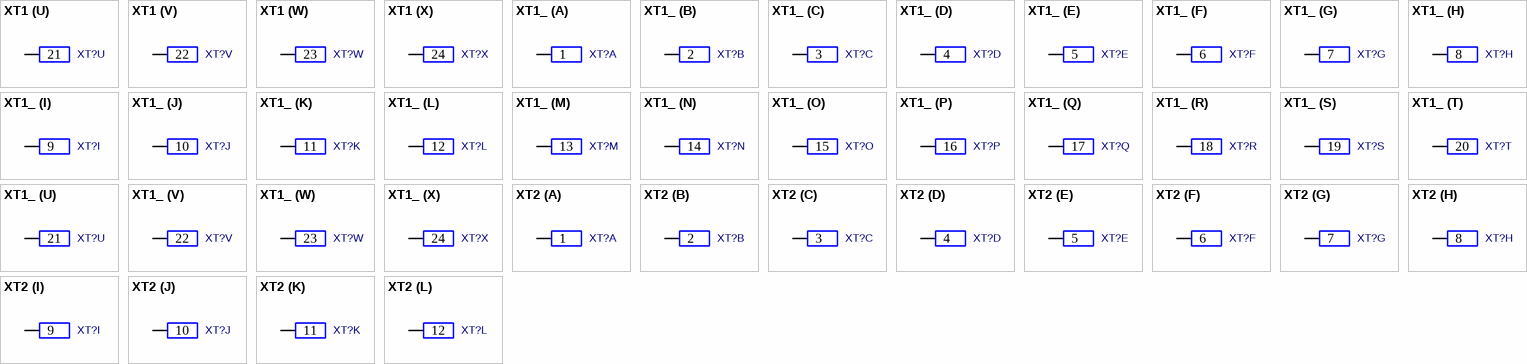
[diagram p5: symbols XT1 to XT2]

## XT1
designator XT?  (value not drawn)
XT1; Value: *
footprint XT1
part A pins: 1
part B pins: 2
part C pins: 3
part D pins: 4
part E pins: 5
part F pins: 6
part G pins: 7
part H pins: 8
part I pins: 9
part J pins: 10
part K pins: 11
part L pins: 12
part M pins: 13
part N pins: 14
part O pins: 15
part P pins: 16
part Q pins: 17
part R pins: 18
part S pins: 19
part T pins: 20
part U pins: 21
part V pins: 22
part W pins: 23
part X pins: 24

## XT1_
designator XT?  (value not drawn)
XT1_; Value: *
footprint XT1
part A pins: 1
part B pins: 2
part C pins: 3
part D pins: 4
part E pins: 5
part F pins: 6
part G pins: 7
part H pins: 8
part I pins: 9
part J pins: 10
part K pins: 11
part L pins: 12
part M pins: 13
part N pins: 14
part O pins: 15
part P pins: 16
part Q pins: 17
part R pins: 18
part S pins: 19
part T pins: 20
part U pins: 21
part V pins: 22
part W pins: 23
part X pins: 24

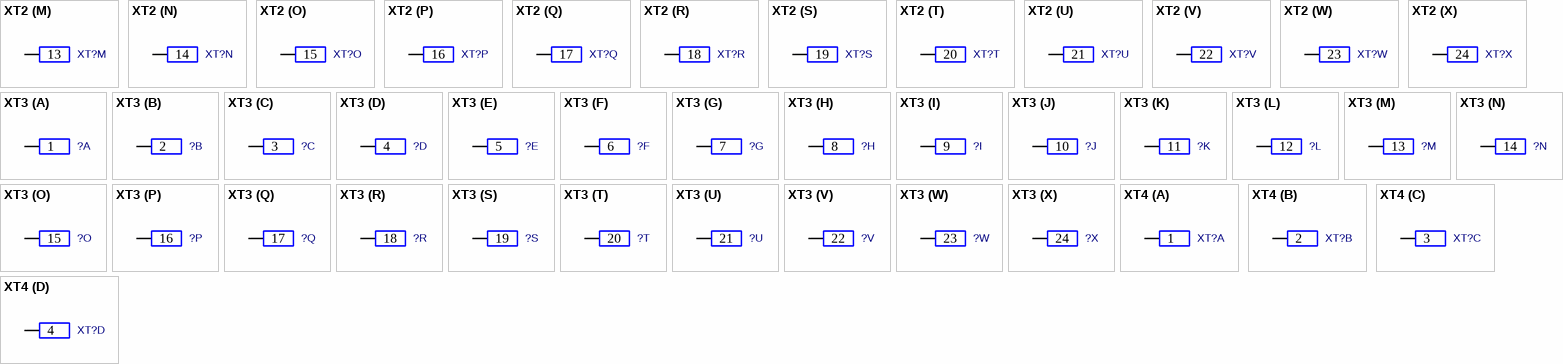
[diagram p6: symbols XT2 to XT4]

## XT2
designator XT?  (value not drawn)
XT2; Value: *
footprint XT1
part A pins: 1
part B pins: 2
part C pins: 3
part D pins: 4
part E pins: 5
part F pins: 6
part G pins: 7
part H pins: 8
part I pins: 9
part J pins: 10
part K pins: 11
part L pins: 12
part M pins: 13
part N pins: 14
part O pins: 15
part P pins: 16
part Q pins: 17
part R pins: 18
part S pins: 19
part T pins: 20
part U pins: 21
part V pins: 22
part W pins: 23
part X pins: 24

## XT3
designator ?  (value not drawn)
XT3; Value: *
footprint XT3
part A pins: 1
part B pins: 2
part C pins: 3
part D pins: 4
part E pins: 5
part F pins: 6
part G pins: 7
part H pins: 8
part I pins: 9
part J pins: 10
part K pins: 11
part L pins: 12
part M pins: 13
part N pins: 14
part O pins: 15
part P pins: 16
part Q pins: 17
part R pins: 18
part S pins: 19
part T pins: 20
part U pins: 21
part V pins: 22
part W pins: 23
part X pins: 24

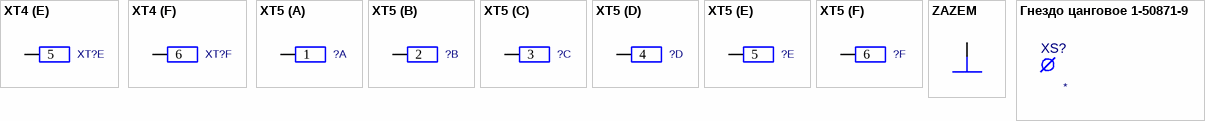
[diagram p7: symbols XT4 to Гнездо цанговое 1-50871-9]

## XT4
designator XT?  (value not drawn)
XT4; Value: *
footprint 737-652_XT4(Primary)
part A pins: 1
part B pins: 2
part C pins: 3
part D pins: 4
part E pins: 5
part F pins: 6

## XT5
designator ?  (value not drawn)
XT5; Value: *
footprint 737-652
part A pins: 1
part B pins: 2
part C pins: 3
part D pins: 4
part E pins: 5
part F pins: 6

## ZAZEM
designator ?  (value not drawn)
Value: *
footprint ZAZEM
pins: 1 GND

## Гнездо цанговое 1-50871-9
designator XS?
footprint Гнездо цанговое 1-50871-9
pins: 0 1A